# EAGLE library part ICM7228CIPIZ (library Intersil_By_element14_Batch_1)
8-Digit, Microprocessor-Compatible, LED Display Decoder Driver
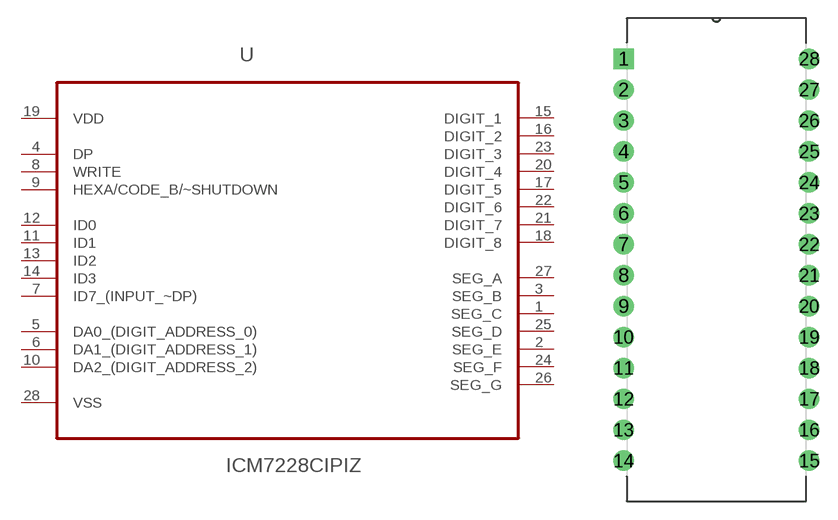
[diagram p206: symbol with the pads of DIP254P1524X635-28; footprint DIP254P1524X635-28]

Designator prefix U

## ICM7228CIPIZ (MPN: ICM7228CIPIZ; OC_FARNELL: 1291912; OC_NEWARK: 79K6932; PACKAGE: PCDIP-28; SUPPLIER: INTERSIL)  [DIP254P1524X635-28]
1  SEG_C  out
2  SEG_E  out
3  SEG_B  out
4  DP  in
5  DA0_(DIGIT_ADDRESS_0)  in
6  DA1_(DIGIT_ADDRESS_1)  in
7  ID7_(INPUT_~DP)  in
8  WRITE  in
9  HEXA/CODE_B/~SHUTDOWN  in
10  DA2_(DIGIT_ADDRESS_2)  in
11  ID1  in
12  ID0  in
13  ID2  in
14  ID3  in
15  DIGIT_1  out
16  DIGIT_2  out
17  DIGIT_5  out
18  DIGIT_8  out
19  VDD  pwr
20  DIGIT_4  out
21  DIGIT_7  out
22  DIGIT_6  out
23  DIGIT_3  out
24  SEG_F  out
25  SEG_D  out
26  SEG_G  out
27  SEG_A  out
28  VSS  pwr

## Footprint DIP254P1524X635-28 (pad centres in mm)
drill 1.118 square: 1 -15.24,33.02
drill 1.118: 2 -15.24,30.48; 3 -15.24,27.94; 4 -15.24,25.4; 5 -15.24,22.86; 6 -15.24,20.32; 7 -15.24,17.78; 8 -15.24,15.24; 9 -15.24,12.7; 10 -15.24,10.16; 11 -15.24,7.62; 12 -15.24,5.08; 13 -15.24,2.54; 14 -15.24,0; 15 0,0; 16 0,2.54; 17 0,5.08; 18 0,7.62; 19 0,10.16; 20 0,12.7; 21 0,15.24; 22 0,17.78; 23 0,20.32; 24 0,22.86; 25 0,25.4; 26 0,27.94; 27 0,30.48; 28 0,33.02